# EAGLE library part RK3506G2 (library RK3506G2)
QFN-128(12.3x12.3) Microcontrollers RoHS 440 mV,,2.5 V,1200 MHz,98 dB,250 mV,62.5 ohm ,-20 25 80 Source: Datasheet <https://opensource.rock-chips.com/images/5/51/Rockchip_RK3506G2_Datasheet_V1.3-20250811.pdf>
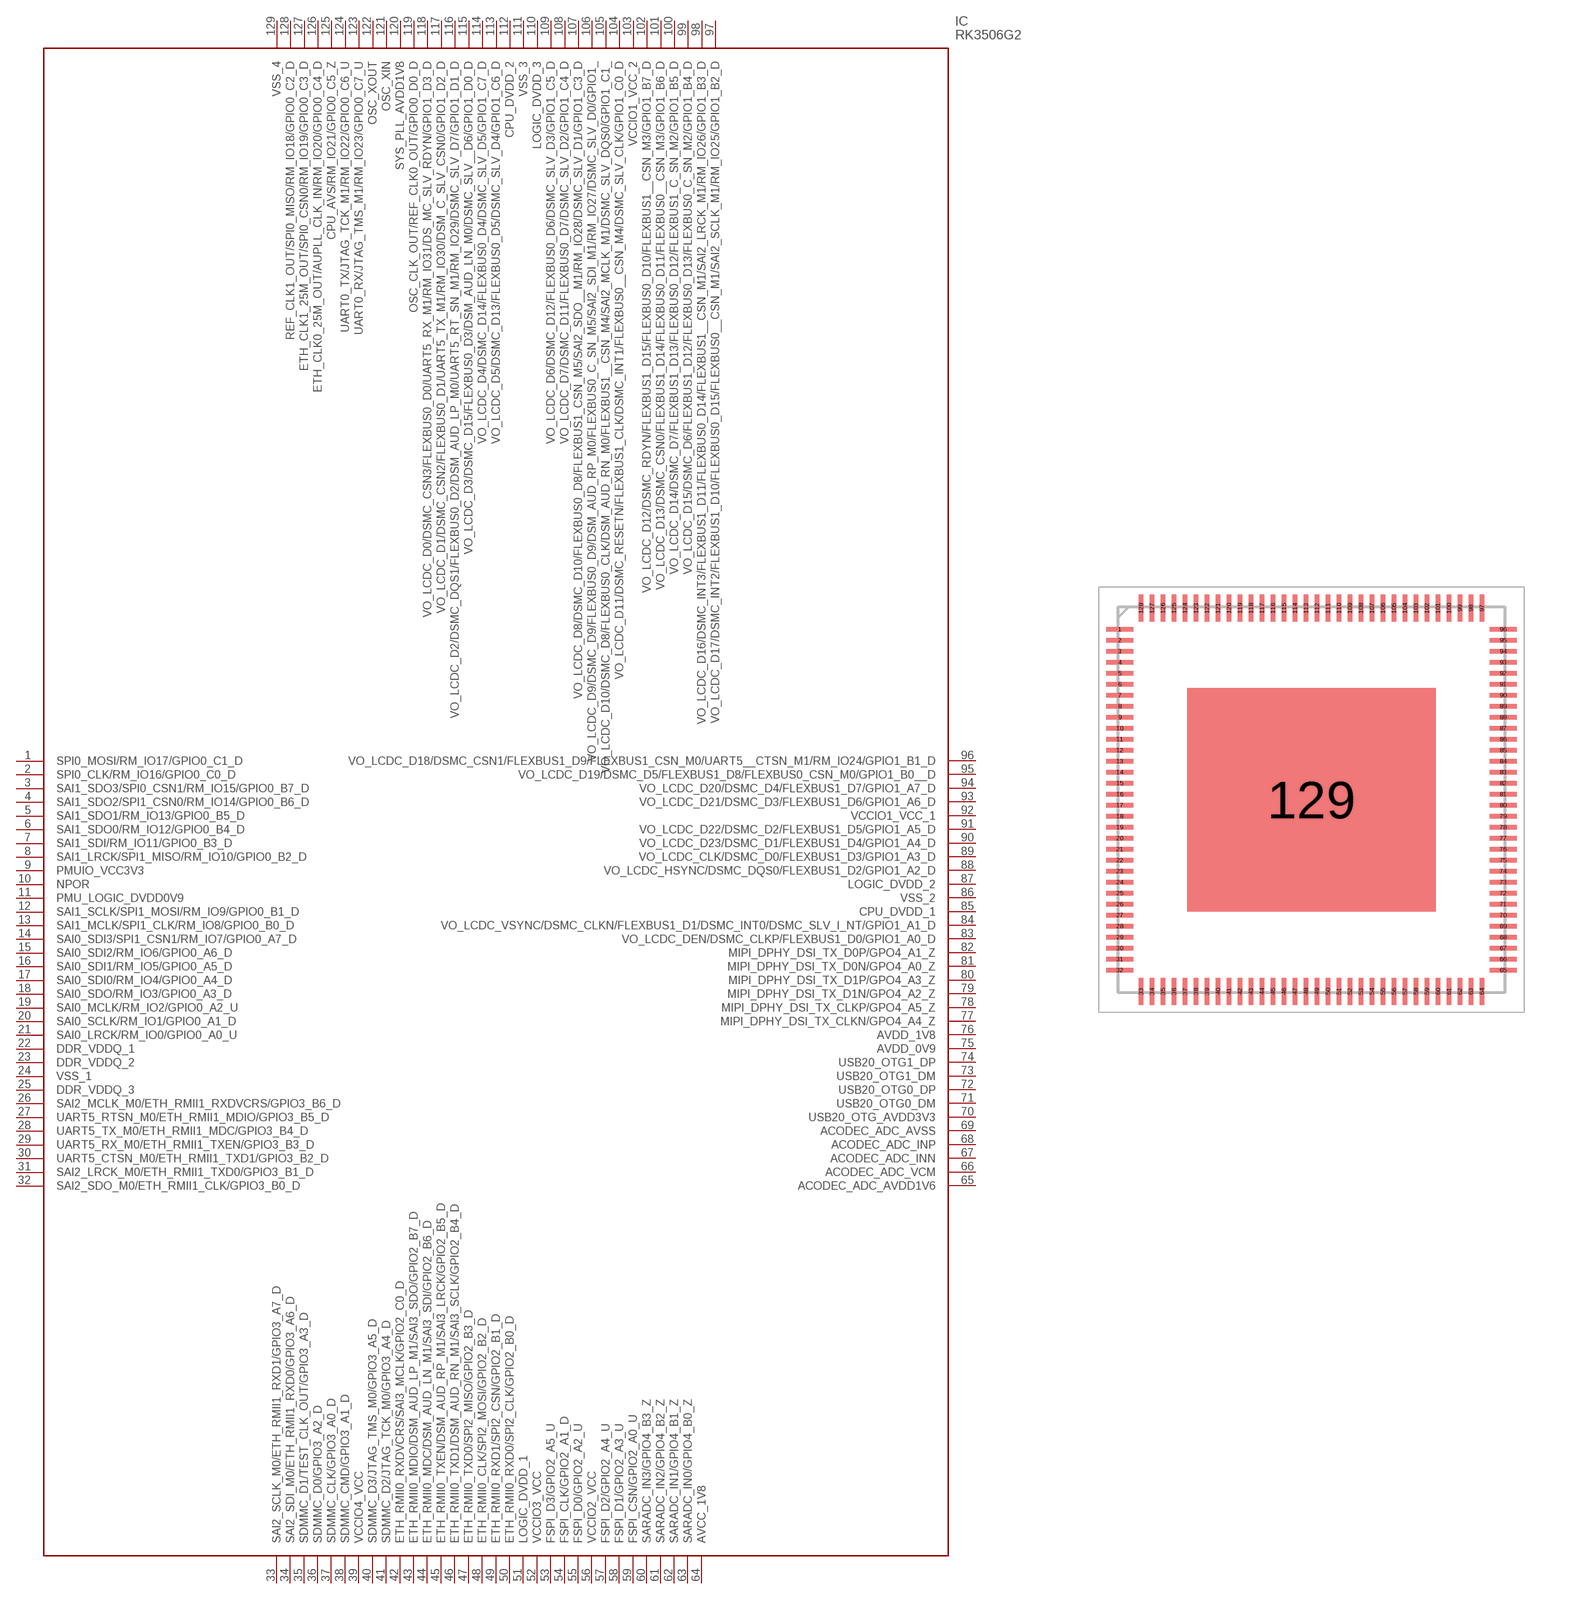
[diagram p0: symbol with the pads of QFN35P1230X1230X145-129N; footprint QFN35P1230X1230X145-129N]

Designator prefix IC

## RK3506G2 (Description: QFN-128(12.3x12.3) Microcontrollers RoHS 440 mV,,2.5 V,1200 MHz,98 dB,250 mV,62.5 ohm ,-20 25 80; Height: 1.45mm; Manufacturer_Name: Rockchip; Manufacturer_Part_Number: RK3506G2)  [QFN35P1230X1230X145-129N]
1  SPI0_MOSI/RM_IO17/GPIO0_C1_D
2  SPI0_CLK/RM_IO16/GPIO0_C0_D
3  SAI1_SDO3/SPI0_CSN1/RM_IO15/GPIO0_B7_D
4  SAI1_SDO2/SPI1_CSN0/RM_IO14/GPIO0_B6_D
5  SAI1_SDO1/RM_IO13/GPIO0_B5_D
6  SAI1_SDO0/RM_IO12/GPIO0_B4_D
7  SAI1_SDI/RM_IO11/GPIO0_B3_D
8  SAI1_LRCK/SPI1_MISO/RM_IO10/GPIO0_B2_D
9  PMUIO_VCC3V3
10  NPOR
11  PMU_LOGIC_DVDD0V9
12  SAI1_SCLK/SPI1_MOSI/RM_IO9/GPIO0_B1_D
13  SAI1_MCLK/SPI1_CLK/RM_IO8/GPIO0_B0_D
14  SAI0_SDI3/SPI1_CSN1/RM_IO7/GPIO0_A7_D
15  SAI0_SDI2/RM_IO6/GPIO0_A6_D
16  SAI0_SDI1/RM_IO5/GPIO0_A5_D
17  SAI0_SDI0/RM_IO4/GPIO0_A4_D
18  SAI0_SDO/RM_IO3/GPIO0_A3_D
19  SAI0_MCLK/RM_IO2/GPIO0_A2_U
20  SAI0_SCLK/RM_IO1/GPIO0_A1_D
21  SAI0_LRCK/RM_IO0/GPIO0_A0_U
22  DDR_VDDQ_1
23  DDR_VDDQ_2
24  VSS_1
25  DDR_VDDQ_3
26  SAI2_MCLK_M0/ETH_RMII1_RXDVCRS/GPIO3_B6_D
27  UART5_RTSN_M0/ETH_RMII1_MDIO/GPIO3_B5_D
28  UART5_TX_M0/ETH_RMII1_MDC/GPIO3_B4_D
29  UART5_RX_M0/ETH_RMII1_TXEN/GPIO3_B3_D
30  UART5_CTSN_M0/ETH_RMII1_TXD1/GPIO3_B2_D
31  SAI2_LRCK_M0/ETH_RMII1_TXD0/GPIO3_B1_D
32  SAI2_SDO_M0/ETH_RMII1_CLK/GPIO3_B0_D
33  SAI2_SCLK_M0/ETH_RMII1_RXD1/GPIO3_A7_D
34  SAI2_SDI_M0/ETH_RMII1_RXD0/GPIO3_A6_D
35  SDMMC_D1/TEST_CLK_OUT/GPIO3_A3_D
36  SDMMC_D0/GPIO3_A2_D
37  SDMMC_CLK/GPIO3_A0_D
38  SDMMC_CMD/GPIO3_A1_D
39  VCCIO4_VCC
40  SDMMC_D3/JTAG_TMS_M0/GPIO3_A5_D
41  SDMMC_D2/JTAG_TCK_M0/GPIO3_A4_D
42  ETH_RMII0_RXDVCRS/SAI3_MCLK/GPIO2_C0_D
43  ETH_RMII0_MDIO/DSM_AUD_LP_M1/SAI3_SDO/GPIO2_B7_D
44  ETH_RMII0_MDC/DSM_AUD_LN_M1/SAI3_SDI/GPIO2_B6_D
45  ETH_RMII0_TXEN/DSM_AUD_RP_M1/SAI3_LRCK/GPIO2_B5_D
46  ETH_RMII0_TXD1/DSM_AUD_RN_M1/SAI3_SCLK/GPIO2_B4_D
47  ETH_RMII0_TXD0/SPI2_MISO/GPIO2_B3_D
48  ETH_RMII0_CLK/SPI2_MOSI/GPIO2_B2_D
49  ETH_RMII0_RXD1/SPI2_CSN/GPIO2_B1_D
50  ETH_RMII0_RXD0/SPI2_CLK/GPIO2_B0_D
51  LOGIC_DVDD_1
52  VCCIO3_VCC
53  FSPI_D3/GPIO2_A5_U
54  FSPI_CLK/GPIO2_A1_D
55  FSPI_D0/GPIO2_A2_U
56  VCCIO2_VCC
57  FSPI_D2/GPIO2_A4_U
58  FSPI_D1/GPIO2_A3_U
59  FSPI_CSN/GPIO2_A0_U
60  SARADC_IN3/GPIO4_B3_Z
61  SARADC_IN2/GPIO4_B2_Z
62  SARADC_IN1/GPIO4_B1_Z
63  SARADC_IN0/GPIO4_B0_Z
64  AVCC_1V8
65  ACODEC_ADC_AVDD1V6
66  ACODEC_ADC_VCM
67  ACODEC_ADC_INN
68  ACODEC_ADC_INP
69  ACODEC_ADC_AVSS
70  USB20_OTG_AVDD3V3
71  USB20_OTG0_DM
72  USB20_OTG0_DP
73  USB20_OTG1_DM
74  USB20_OTG1_DP
75  AVDD_0V9
76  AVDD_1V8
77  MIPI_DPHY_DSI_TX_CLKN/GPO4_A4_Z
78  MIPI_DPHY_DSI_TX_CLKP/GPO4_A5_Z
79  MIPI_DPHY_DSI_TX_D1N/GPO4_A2_Z
80  MIPI_DPHY_DSI_TX_D1P/GPO4_A3_Z
81  MIPI_DPHY_DSI_TX_D0N/GPO4_A0_Z
82  MIPI_DPHY_DSI_TX_D0P/GPO4_A1_Z
83  VO_LCDC_DEN/DSMC_CLKP/FLEXBUS1_D0/GPIO1_A0_D
84  VO_LCDC_VSYNC/DSMC_CLKN/FLEXBUS1_D1/DSMC_INT0/DSMC_SLV_I_NT/GPIO1_A1_D
85  CPU_DVDD_1
86  VSS_2
87  LOGIC_DVDD_2
88  VO_LCDC_HSYNC/DSMC_DQS0/FLEXBUS1_D2/GPIO1_A2_D
89  VO_LCDC_CLK/DSMC_D0/FLEXBUS1_D3/GPIO1_A3_D
90  VO_LCDC_D23/DSMC_D1/FLEXBUS1_D4/GPIO1_A4_D
91  VO_LCDC_D22/DSMC_D2/FLEXBUS1_D5/GPIO1_A5_D
92  VCCIO1_VCC_1
93  VO_LCDC_D21/DSMC_D3/FLEXBUS1_D6/GPIO1_A6_D
94  VO_LCDC_D20/DSMC_D4/FLEXBUS1_D7/GPIO1_A7_D
95  VO_LCDC_D19/DSMC_D5/FLEXBUS1_D8/FLEXBUS0_CSN_M0/GPIO1_B0__D
96  VO_LCDC_D18/DSMC_CSN1/FLEXBUS1_D9/FLEXBUS1_CSN_M0/UART5__CTSN_M1/RM_IO24/GPIO1_B1_D
97  VO_LCDC_D17/DSMC_INT2/FLEXBUS1_D10/FLEXBUS0_D15/FLEXBUS0__CSN_M1/SAI2_SCLK_M1/RM_IO25/GPIO1_B2_D
98  VO_LCDC_D16/DSMC_INT3/FLEXBUS1_D11/FLEXBUS0_D14/FLEXBUS1__CSN_M1/SAI2_LRCK_M1/RM_IO26/GPIO1_B3_D
99  VO_LCDC_D15/DSMC_D6/FLEXBUS1_D12/FLEXBUS0_D13/FLEXBUS0_C_SN_M2/GPIO1_B4_D
100  VO_LCDC_D14/DSMC_D7/FLEXBUS1_D13/FLEXBUS0_D12/FLEXBUS1_C_SN_M2/GPIO1_B5_D
101  VO_LCDC_D13/DSMC_CSN0/FLEXBUS1_D14/FLEXBUS0_D11/FLEXBUS0__CSN_M3/GPIO1_B6_D
102  VO_LCDC_D12/DSMC_RDYN/FLEXBUS1_D15/FLEXBUS0_D10/FLEXBUS1__CSN_M3/GPIO1_B7_D
103  VCCIO1_VCC_2
104  VO_LCDC_D11/DSMC_RESETN/FLEXBUS1_CLK/DSMC_INT1/FLEXBUS0__CSN_M4/DSMC_SLV_CLK/GPIO1_C0_D
105  VO_LCDC_D10/DSMC_D8/FLEXBUS0_CLK/DSM_AUD_RN_M0/FLEXBUS1__CSN_M4/SAI2_MCLK_M1/DSMC_SLV_DQS0/GPIO1_C1_
106  VO_LCDC_D9/DSMC_D9/FLEXBUS0_D9/DSM_AUD_RP_M0/FLEXBUS0_C_SN_M5/SAI2_SDI_M1/RM_IO27/DSMC_SLV_D0/GPIO1_
107  VO_LCDC_D8/DSMC_D10/FLEXBUS0_D8/FLEXBUS1_CSN_M5/SAI2_SDO__M1/RM_IO28/DSMC_SLV_D1/GPIO1_C3_D
108  VO_LCDC_D7/DSMC_D11/FLEXBUS0_D7/DSMC_SLV_D2/GPIO1_C4_D
109  VO_LCDC_D6/DSMC_D12/FLEXBUS0_D6/DSMC_SLV_D3/GPIO1_C5_D
110  LOGIC_DVDD_3
111  VSS_3
112  CPU_DVDD_2
113  VO_LCDC_D5/DSMC_D13/FLEXBUS0_D5/DSMC_SLV_D4/GPIO1_C6_D
114  VO_LCDC_D4/DSMC_D14/FLEXBUS0_D4/DSMC_SLV_D5/GPIO1_C7_D
115  VO_LCDC_D3/DSMC_D15/FLEXBUS0_D3/DSM_AUD_LN_M0/DSMC_SLV__D6/GPIO1_D0_D
116  VO_LCDC_D2/DSMC_DQS1/FLEXBUS0_D2/DSM_AUD_LP_M0/UART5_RT_SN_M1/RM_IO29/DSMC_SLV_D7/GPIO1_D1_D
117  VO_LCDC_D1/DSMC_CSN2/FLEXBUS0_D1/UART5_TX_M1/RM_IO30/DSM_C_SLV_CSN0/GPIO1_D2_D
118  VO_LCDC_D0/DSMC_CSN3/FLEXBUS0_D0/UART5_RX_M1/RM_IO31/DS_MC_SLV_RDYN/GPIO1_D3_D
119  OSC_CLK_OUT/REF_CLK0_OUT/GPIO0_D0_D
120  SYS_PLL_AVDD1V8
121  OSC_XIN
122  OSC_XOUT
123  UART0_RX/JTAG_TMS_M1/RM_IO23/GPIO0_C7_U
124  UART0_TX/JTAG_TCK_M1/RM_IO22/GPIO0_C6_U
125  CPU_AVS/RM_IO21/GPIO0_C5_Z
126  ETH_CLK0_25M_OUT/AUPLL_CLK_IN/RM_IO20/GPIO0_C4_D
127  ETH_CLK1_25M_OUT/SPI0_CSN0/RM_IO19/GPIO0_C3_D
128  REF_CLK1_OUT/SPI0_MISO/RM_IO18/GPIO0_C2_D
129  VSS_4

## Footprint QFN35P1230X1230X145-129N (pad centres in mm)
QFN128L
smd 0.85 x 0.15: 1 -6.1,5.425; 2 -6.1,5.075; 3 -6.1,4.725; 4 -6.1,4.375; 5 -6.1,4.025; 6 -6.1,3.675; 7 -6.1,3.325; 8 -6.1,2.975; 9 -6.1,2.625; 10 -6.1,2.275; 11 -6.1,1.925; 12 -6.1,1.575; 13 -6.1,1.225; 14 -6.1,0.875; 15 -6.1,0.525; 16 -6.1,0.175; 17 -6.1,-0.175; 18 -6.1,-0.525; 19 -6.1,-0.875; 20 -6.1,-1.225; 21 -6.1,-1.575; 22 -6.1,-1.925; 23 -6.1,-2.275; 24 -6.1,-2.625; 25 -6.1,-2.975; 26 -6.1,-3.325; 27 -6.1,-3.675; 28 -6.1,-4.025; 29 -6.1,-4.375; 30 -6.1,-4.725; 31 -6.1,-5.075; 32 -6.1,-5.425; 65 6.1,-5.425; 66 6.1,-5.075; 67 6.1,-4.725; 68 6.1,-4.375; 69 6.1,-4.025; 70 6.1,-3.675; 71 6.1,-3.325; 72 6.1,-2.975; 73 6.1,-2.625; 74 6.1,-2.275; 75 6.1,-1.925; 76 6.1,-1.575; 77 6.1,-1.225; 78 6.1,-0.875; 79 6.1,-0.525; 80 6.1,-0.175; 81 6.1,0.175; 82 6.1,0.525; 83 6.1,0.875; 84 6.1,1.225; 85 6.1,1.575; 86 6.1,1.925; 87 6.1,2.275; 88 6.1,2.625; 89 6.1,2.975; 90 6.1,3.325; 91 6.1,3.675; 92 6.1,4.025; 93 6.1,4.375; 94 6.1,4.725; 95 6.1,5.075; 96 6.1,5.425
smd 0.15 x 0.85: 33 -5.425,-6.1; 34 -5.075,-6.1; 35 -4.725,-6.1; 36 -4.375,-6.1; 37 -4.025,-6.1; 38 -3.675,-6.1; 39 -3.325,-6.1; 40 -2.975,-6.1; 41 -2.625,-6.1; 42 -2.275,-6.1; 43 -1.925,-6.1; 44 -1.575,-6.1; 45 -1.225,-6.1; 46 -0.875,-6.1; 47 -0.525,-6.1; 48 -0.175,-6.1; 49 0.175,-6.1; 50 0.525,-6.1; 51 0.875,-6.1; 52 1.225,-6.1; 53 1.575,-6.1; 54 1.925,-6.1; 55 2.275,-6.1; 56 2.625,-6.1; 57 2.975,-6.1; 58 3.325,-6.1; 59 3.675,-6.1; 60 4.025,-6.1; 61 4.375,-6.1; 62 4.725,-6.1; 63 5.075,-6.1; 64 5.425,-6.1; 97 5.425,6.1; 98 5.075,6.1; 99 4.725,6.1; 100 4.375,6.1; 101 4.025,6.1; 102 3.675,6.1; 103 3.325,6.1; 104 2.975,6.1; 105 2.625,6.1; 106 2.275,6.1; 107 1.925,6.1; 108 1.575,6.1; 109 1.225,6.1; 110 0.875,6.1; 111 0.525,6.1; 112 0.175,6.1; 113 -0.175,6.1; 114 -0.525,6.1; 115 -0.875,6.1; 116 -1.225,6.1; 117 -1.575,6.1; 118 -1.925,6.1; 119 -2.275,6.1; 120 -2.625,6.1; 121 -2.975,6.1; 122 -3.325,6.1; 123 -3.675,6.1; 124 -4.025,6.1; 125 -4.375,6.1; 126 -4.725,6.1; 127 -5.075,6.1; 128 -5.425,6.1
smd 7.9 x 7.1: 129 0,0